# Altium footprint library SW_PCB.PcbLib: 1 footprints
Each footprint in its own frame and in the unit in brackets; x right, y up, seen from the top. Pads: shape width x height; smd on the part's side, far side on the other; paste and mask are expansions set on the pad; w line width, h text height; cw(c..) or ccw(c..) is an arc to the next point about the centre after c.
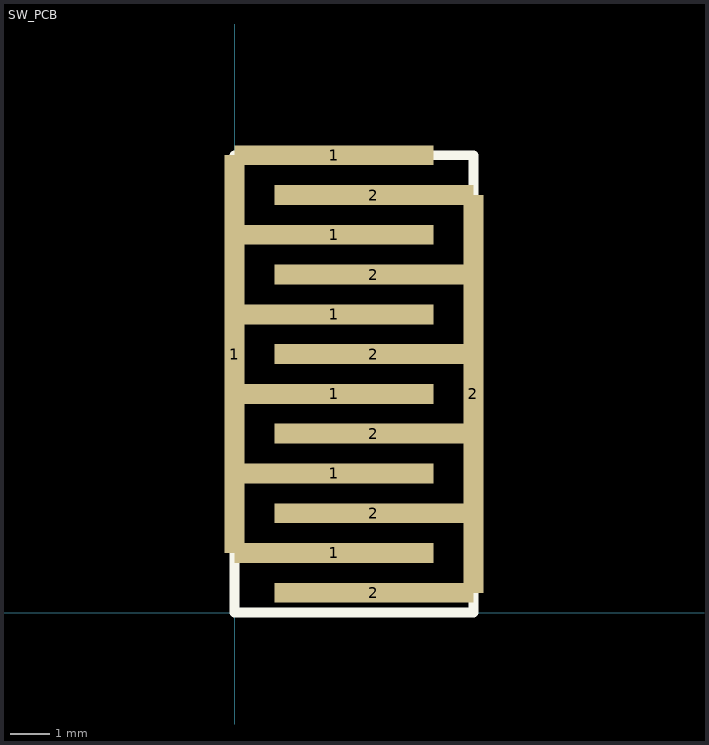
[diagram p0: the footprint, top view; thin cyan lines are the x and y axes]

## SW_PCB [mil]
pads (14):
  rect 20x400 smd: 1(0,260) 2(240,220)
  rect 200x20 smd: 1(100,60) 1(100,140) 1(100,220) 1(100,300) 1(100,380) 1(100,460) 2(140,20) 2(140,100) 2(140,180) 2(140,260) 2(140,340) 2(140,420)
Top Overlay:
  lines w10: 0,0 0,460 240,460 240,0 0,0